# EAGLE library part AM3359 (library eagle-book)
Texas Instruments' Sitara ARM Cortex-A8 Microprocessor
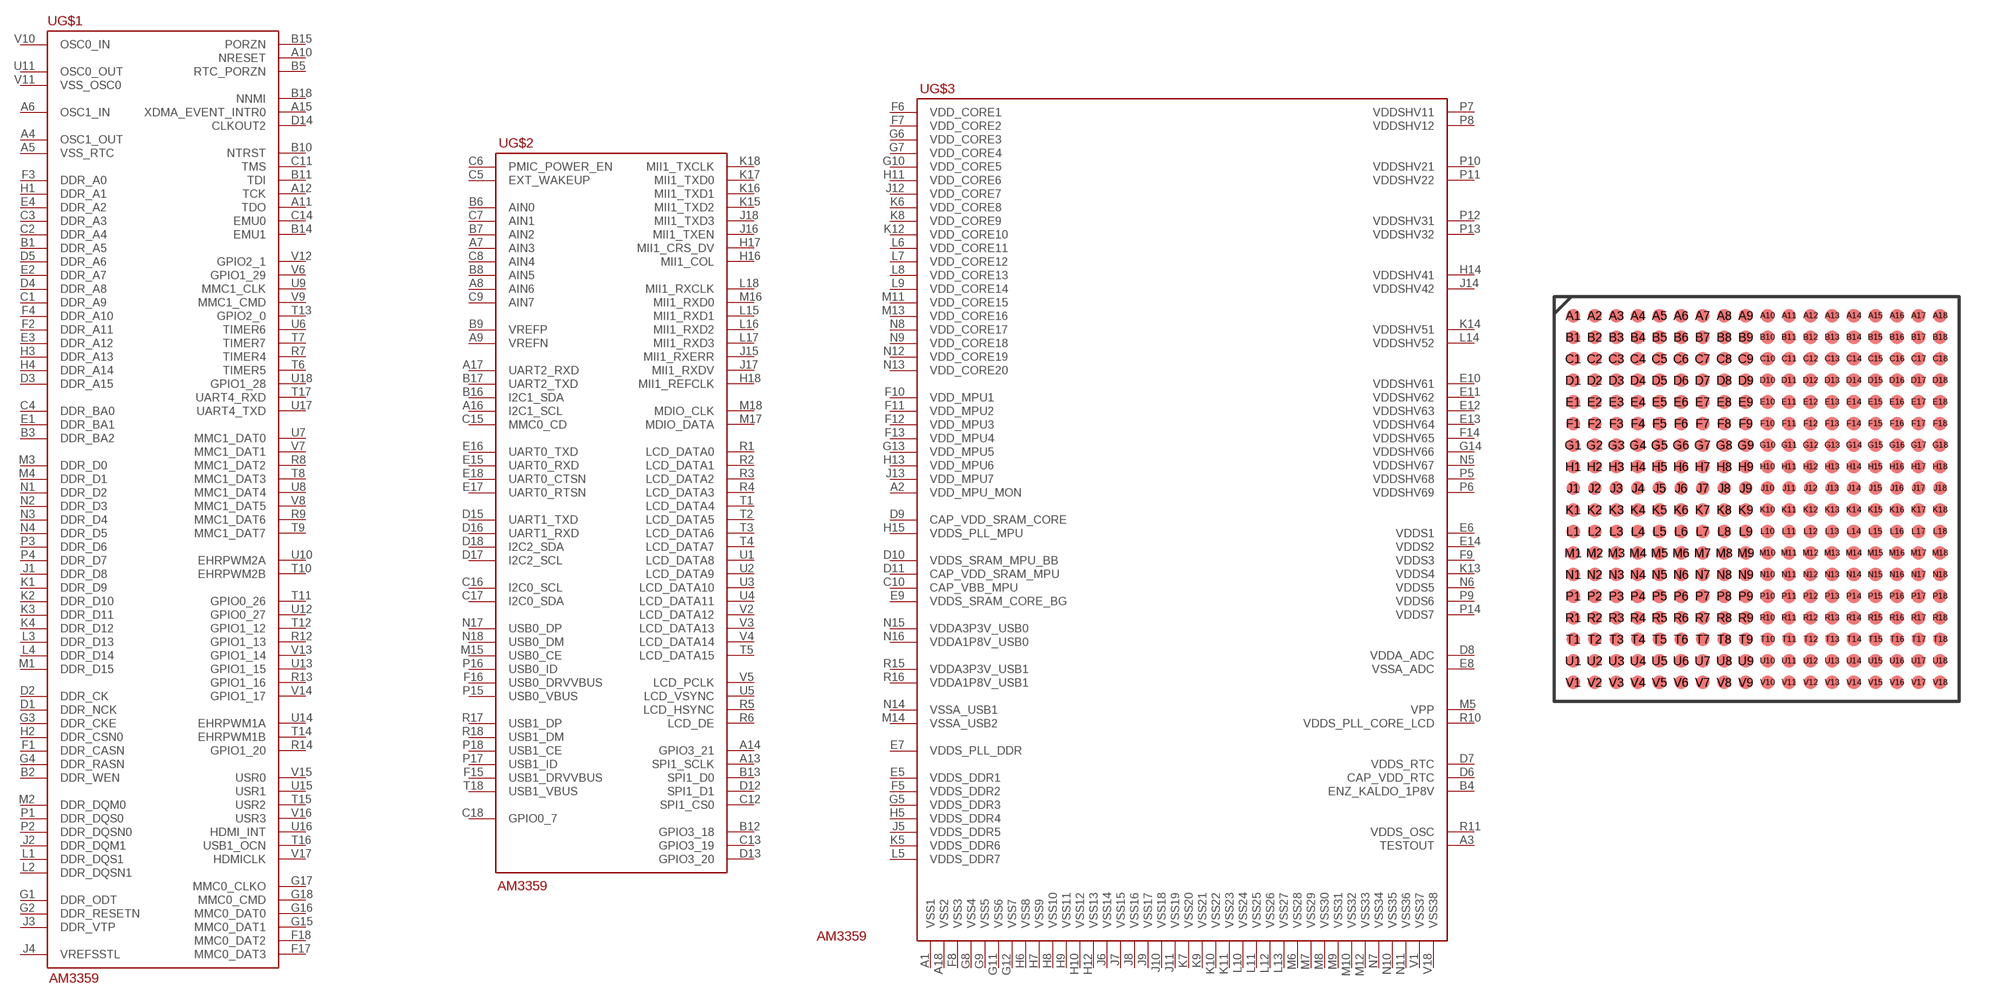
[diagram p7: symbol with the pads of S-PBGA-N324; footprint S-PBGA-N324]

Designator prefix U; gates G$1=AM3359_MEMORY G$2=AM3359_IO G$3=AM3359_SUPPLY

## AM3359AZCZ100  [S-PBGA-N324]
A1  G$3:VSS1  pwr
A2  G$3:VDD_MPU_MON  pwr
A3  G$3:TESTOUT  pwr
A4  G$1:OSC1_OUT
A5  G$1:VSS_RTC  pwr
A6  G$1:OSC1_IN
A7  G$2:AIN3
A8  G$2:AIN6
A9  G$2:VREFN  pwr
A10  G$1:NRESET
A11  G$1:TDO
A12  G$1:TCK
A13  G$2:SPI1_SCLK
A14  G$2:GPIO3_21
A15  G$1:XDMA_EVENT_INTR0
A16  G$2:I2C1_SCL
A17  G$2:UART2_RXD
A18  G$3:VSS2  pwr
B1  G$1:DDR_A5
B2  G$1:DDR_WEN
B3  G$1:DDR_BA2
B4  G$3:ENZ_KALDO_1P8V  pwr
B5  G$1:RTC_PORZN
B6  G$2:AIN0
B7  G$2:AIN2
B8  G$2:AIN5
B9  G$2:VREFP  pwr
B10  G$1:NTRST
B11  G$1:TDI
B12  G$2:GPIO3_18
B13  G$2:SPI1_D0
B14  G$1:EMU1
B15  G$1:PORZN
B16  G$2:I2C1_SDA
B17  G$2:UART2_TXD
B18  G$1:NNMI
C1  G$1:DDR_A9
C2  G$1:DDR_A4
C3  G$1:DDR_A3
C4  G$1:DDR_BA0
C5  G$2:EXT_WAKEUP
C6  G$2:PMIC_POWER_EN
C7  G$2:AIN1
C8  G$2:AIN4
C9  G$2:AIN7
C10  G$3:CAP_VBB_MPU  pwr
C11  G$1:TMS
C12  G$2:SPI1_CS0
C13  G$2:GPIO3_19
C14  G$1:EMU0
C15  G$2:MMC0_CD
C16  G$2:I2C0_SCL
C17  G$2:I2C0_SDA
C18  G$2:GPIO0_7
D1  G$1:DDR_NCK
D2  G$1:DDR_CK
D3  G$1:DDR_A15
D4  G$1:DDR_A8
D5  G$1:DDR_A6
D6  G$3:CAP_VDD_RTC  pwr
D7  G$3:VDDS_RTC  pwr
D8  G$3:VDDA_ADC  pwr
D9  G$3:CAP_VDD_SRAM_CORE  pwr
D10  G$3:VDDS_SRAM_MPU_BB  pwr
D11  G$3:CAP_VDD_SRAM_MPU  pwr
D12  G$2:SPI1_D1
D13  G$2:GPIO3_20
D14  G$1:CLKOUT2
D15  G$2:UART1_TXD
D16  G$2:UART1_RXD
D17  G$2:I2C2_SCL
D18  G$2:I2C2_SDA
E1  G$1:DDR_BA1
E2  G$1:DDR_A7
E3  G$1:DDR_A12
E4  G$1:DDR_A2
E5  G$3:VDDS_DDR1  pwr
E6  G$3:VDDS1  pwr
E7  G$3:VDDS_PLL_DDR  pwr
E8  G$3:VSSA_ADC  pwr
E9  G$3:VDDS_SRAM_CORE_BG  pwr
E10  G$3:VDDSHV61  pwr
E11  G$3:VDDSHV62  pwr
E12  G$3:VDDSHV63  pwr
E13  G$3:VDDSHV64  pwr
E14  G$3:VDDS2  pwr
E15  G$2:UART0_RXD
E16  G$2:UART0_TXD
E17  G$2:UART0_RTSN
E18  G$2:UART0_CTSN
F1  G$1:DDR_CASN
F2  G$1:DDR_A11
F3  G$1:DDR_A0
F4  G$1:DDR_A10
F5  G$3:VDDS_DDR2  pwr
F6  G$3:VDD_CORE1  pwr
F7  G$3:VDD_CORE2  pwr
F8  G$3:VSS3  pwr
F9  G$3:VDDS3  pwr
F10  G$3:VDD_MPU1  pwr
F11  G$3:VDD_MPU2  pwr
F12  G$3:VDD_MPU3  pwr
F13  G$3:VDD_MPU4  pwr
F14  G$3:VDDSHV65  pwr
F15  G$2:USB1_DRVVBUS
F16  G$2:USB0_DRVVBUS
F17  G$1:MMC0_DAT3
F18  G$1:MMC0_DAT2
G1  G$1:DDR_ODT
G2  G$1:DDR_RESETN
G3  G$1:DDR_CKE
G4  G$1:DDR_RASN
G5  G$3:VDDS_DDR3  pwr
G6  G$3:VDD_CORE3  pwr
G7  G$3:VDD_CORE4  pwr
G8  G$3:VSS4  pwr
G9  G$3:VSS5  pwr
G10  G$3:VDD_CORE5  pwr
G11  G$3:VSS6  pwr
G12  G$3:VSS7  pwr
G13  G$3:VDD_MPU5  pwr
G14  G$3:VDDSHV66  pwr
G15  G$1:MMC0_DAT1
G16  G$1:MMC0_DAT0
G17  G$1:MMC0_CLKO
G18  G$1:MMC0_CMD
H1  G$1:DDR_A1
H2  G$1:DDR_CSN0
H3  G$1:DDR_A13
H4  G$1:DDR_A14
H5  G$3:VDDS_DDR4  pwr
H6  G$3:VSS8  pwr
H7  G$3:VSS9  pwr
H8  G$3:VSS10  pwr
H9  G$3:VSS11  pwr
H10  G$3:VSS12  pwr
H11  G$3:VDD_CORE6  pwr
H12  G$3:VSS13  pwr
H13  G$3:VDD_MPU6  pwr
H14  G$3:VDDSHV41  pwr
H15  G$3:VDDS_PLL_MPU  pwr
H16  G$2:MII1_COL
H17  G$2:MII1_CRS_DV
H18  G$2:MII1_REFCLK
J1  G$1:DDR_D8
J2  G$1:DDR_DQM1
J3  G$1:DDR_VTP
J4  G$1:VREFSSTL  pwr
J5  G$3:VDDS_DDR5  pwr
J6  G$3:VSS14  pwr
J7  G$3:VSS15  pwr
J8  G$3:VSS16  pwr
J9  G$3:VSS17  pwr
J10  G$3:VSS18  pwr
J11  G$3:VSS19  pwr
J12  G$3:VDD_CORE7  pwr
J13  G$3:VDD_MPU7  pwr
J14  G$3:VDDSHV42  pwr
J15  G$2:MII1_RXERR
J16  G$2:MII1_TXEN
J17  G$2:MII1_RXDV
J18  G$2:MII1_TXD3
K1  G$1:DDR_D9
K2  G$1:DDR_D10
K3  G$1:DDR_D11
K4  G$1:DDR_D12
K5  G$3:VDDS_DDR6  pwr
K6  G$3:VDD_CORE8  pwr
K7  G$3:VSS20  pwr
K8  G$3:VDD_CORE9  pwr
K9  G$3:VSS21  pwr
K10  G$3:VSS22  pwr
K11  G$3:VSS23  pwr
K12  G$3:VDD_CORE10  pwr
K13  G$3:VDDS4  pwr
K14  G$3:VDDSHV51  pwr
K15  G$2:MII1_TXD2
K16  G$2:MII1_TXD1
K17  G$2:MII1_TXD0
K18  G$2:MII1_TXCLK
L1  G$1:DDR_DQS1
L2  G$1:DDR_DQSN1
L3  G$1:DDR_D13
L4  G$1:DDR_D14
L5  G$3:VDDS_DDR7  pwr
L6  G$3:VDD_CORE11  pwr
L7  G$3:VDD_CORE12  pwr
L8  G$3:VDD_CORE13  pwr
L9  G$3:VDD_CORE14  pwr
L10  G$3:VSS24  pwr
L11  G$3:VSS25  pwr
L12  G$3:VSS26  pwr
L13  G$3:VSS27  pwr
L14  G$3:VDDSHV52  pwr
L15  G$2:MII1_RXD1
L16  G$2:MII1_RXD2
L17  G$2:MII1_RXD3
L18  G$2:MII1_RXCLK
M1  G$1:DDR_D15
M2  G$1:DDR_DQM0
M3  G$1:DDR_D0
M4  G$1:DDR_D1
M5  G$3:VPP  pwr
M6  G$3:VSS28  pwr
M7  G$3:VSS29  pwr
M8  G$3:VSS30  pwr
M9  G$3:VSS31  pwr
M10  G$3:VSS32  pwr
M11  G$3:VDD_CORE15  pwr
M12  G$3:VSS33  pwr
M13  G$3:VDD_CORE16  pwr
M14  G$3:VSSA_USB2  pwr
M15  G$2:USB0_CE
M16  G$2:MII1_RXD0
M17  G$2:MDIO_DATA
M18  G$2:MDIO_CLK
N1  G$1:DDR_D2
N2  G$1:DDR_D3
N3  G$1:DDR_D4
N4  G$1:DDR_D5
N5  G$3:VDDSHV67  pwr
N6  G$3:VDDS5  pwr
N7  G$3:VSS34  pwr
N8  G$3:VDD_CORE17  pwr
N9  G$3:VDD_CORE18  pwr
N10  G$3:VSS35  pwr
N11  G$3:VSS36  pwr
N12  G$3:VDD_CORE19  pwr
N13  G$3:VDD_CORE20  pwr
N14  G$3:VSSA_USB1  pwr
N15  G$3:VDDA3P3V_USB0  pwr
N16  G$3:VDDA1P8V_USB0  pwr
N17  G$2:USB0_DP
N18  G$2:USB0_DM
P1  G$1:DDR_DQS0
P2  G$1:DDR_DQSN0
P3  G$1:DDR_D6
P4  G$1:DDR_D7
P5  G$3:VDDSHV68  pwr
P6  G$3:VDDSHV69  pwr
P7  G$3:VDDSHV11  pwr
P8  G$3:VDDSHV12  pwr
P9  G$3:VDDS6  pwr
P10  G$3:VDDSHV21  pwr
P11  G$3:VDDSHV22  pwr
P12  G$3:VDDSHV31  pwr
P13  G$3:VDDSHV32  pwr
P14  G$3:VDDS7  pwr
P15  G$2:USB0_VBUS
P16  G$2:USB0_ID
P17  G$2:USB1_ID
P18  G$2:USB1_CE
R1  G$2:LCD_DATA0
R2  G$2:LCD_DATA1
R3  G$2:LCD_DATA2
R4  G$2:LCD_DATA3
R5  G$2:LCD_HSYNC
R6  G$2:LCD_DE
R7  G$1:TIMER4
R8  G$1:MMC1_DAT2
R9  G$1:MMC1_DAT6
R10  G$3:VDDS_PLL_CORE_LCD  pwr
R11  G$3:VDDS_OSC  pwr
R12  G$1:GPIO1_13
R13  G$1:GPIO1_16
R14  G$1:GPIO1_20
R15  G$3:VDDA3P3V_USB1  pwr
R16  G$3:VDDA1P8V_USB1  pwr
R17  G$2:USB1_DP
R18  G$2:USB1_DM
T1  G$2:LCD_DATA4
T2  G$2:LCD_DATA5
T3  G$2:LCD_DATA6
T4  G$2:LCD_DATA7
T5  G$2:LCD_DATA15
T6  G$1:TIMER5
T7  G$1:TIMER7
T8  G$1:MMC1_DAT3
T9  G$1:MMC1_DAT7
T10  G$1:EHRPWM2B
T11  G$1:GPIO0_26
T12  G$1:GPIO1_12
T13  G$1:GPIO2_0
T14  G$1:EHRPWM1B
T15  G$1:USR2
T16  G$1:USB1_OCN
T17  G$1:UART4_RXD
T18  G$2:USB1_VBUS
U1  G$2:LCD_DATA8
U2  G$2:LCD_DATA9
U3  G$2:LCD_DATA10
U4  G$2:LCD_DATA11
U5  G$2:LCD_VSYNC
U6  G$1:TIMER6
U7  G$1:MMC1_DAT0
U8  G$1:MMC1_DAT4
U9  G$1:MMC1_CLK
U10  G$1:EHRPWM2A
U11  G$1:OSC0_OUT
U12  G$1:GPIO0_27
U13  G$1:GPIO1_15
U14  G$1:EHRPWM1A
U15  G$1:USR1
U16  G$1:HDMI_INT
U17  G$1:UART4_TXD
U18  G$1:GPIO1_28
V1  G$3:VSS37  pwr
V2  G$2:LCD_DATA12
V3  G$2:LCD_DATA13
V4  G$2:LCD_DATA14
V5  G$2:LCD_PCLK
V6  G$1:GPIO1_29
V7  G$1:MMC1_DAT1
V8  G$1:MMC1_DAT5
V9  G$1:MMC1_CMD
V10  G$1:OSC0_IN
V11  G$1:VSS_OSC0  pwr
V12  G$1:GPIO2_1
V13  G$1:GPIO1_14
V14  G$1:GPIO1_17
V15  G$1:USR0
V16  G$1:USR3
V17  G$1:HDMICLK
V18  G$3:VSS38  pwr

## Footprint S-PBGA-N324 (pad centres in mm)
324-ball plastic ball-grid array
smd 0.5 x 0.5: A1 -6.8,6.8; A2 -6,6.8; A3 -5.2,6.8; A4 -4.4,6.8; A5 -3.6,6.8; A6 -2.8,6.8; A7 -2,6.8; A8 -1.2,6.8; A9 -0.4,6.8; A10 0.4,6.8; A11 1.2,6.8; A12 2,6.8; A13 2.8,6.8; A14 3.6,6.8; A15 4.4,6.8; A16 5.2,6.8; A17 6,6.8; A18 6.8,6.8; B1 -6.8,6; B2 -6,6; B3 -5.2,6; B4 -4.4,6; B5 -3.6,6; B6 -2.8,6; B7 -2,6; B8 -1.2,6; B9 -0.4,6; B10 0.4,6; B11 1.2,6; B12 2,6; B13 2.8,6; B14 3.6,6; B15 4.4,6; B16 5.2,6; B17 6,6; B18 6.8,6; C1 -6.8,5.2; C2 -6,5.2; C3 -5.2,5.2; C4 -4.4,5.2; C5 -3.6,5.2; C6 -2.8,5.2; C7 -2,5.2; C8 -1.2,5.2; C9 -0.4,5.2; C10 0.4,5.2; C11 1.2,5.2; C12 2,5.2; C13 2.8,5.2; C14 3.6,5.2; C15 4.4,5.2; C16 5.2,5.2; C17 6,5.2; C18 6.8,5.2; D1 -6.8,4.4; D2 -6,4.4; D3 -5.2,4.4; D4 -4.4,4.4; D5 -3.6,4.4; D6 -2.8,4.4; D7 -2,4.4; D8 -1.2,4.4; D9 -0.4,4.4; D10 0.4,4.4; D11 1.2,4.4; D12 2,4.4; D13 2.8,4.4; D14 3.6,4.4; D15 4.4,4.4; D16 5.2,4.4; D17 6,4.4; D18 6.8,4.4; E1 -6.8,3.6; E2 -6,3.6; E3 -5.2,3.6; E4 -4.4,3.6; E5 -3.6,3.6; E6 -2.8,3.6; E7 -2,3.6; E8 -1.2,3.6; E9 -0.4,3.6; E10 0.4,3.6; E11 1.2,3.6; E12 2,3.6; E13 2.8,3.6; E14 3.6,3.6; E15 4.4,3.6; E16 5.2,3.6; E17 6,3.6; E18 6.8,3.6; F1 -6.8,2.8; F2 -6,2.8; F3 -5.2,2.8; F4 -4.4,2.8; F5 -3.6,2.8; F6 -2.8,2.8; F7 -2,2.8; F8 -1.2,2.8; F9 -0.4,2.8; F10 0.4,2.8; F11 1.2,2.8; F12 2,2.8; F13 2.8,2.8; F14 3.6,2.8; F15 4.4,2.8; F16 5.2,2.8; F17 6,2.8; F18 6.8,2.8; G1 -6.8,2; G2 -6,2; G3 -5.2,2; G4 -4.4,2; G5 -3.6,2; G6 -2.8,2; G7 -2,2; G8 -1.2,2; G9 -0.4,2; G10 0.4,2; G11 1.2,2; G12 2,2; G13 2.8,2; G14 3.6,2; G15 4.4,2; G16 5.2,2; G17 6,2; G18 6.8,2; H1 -6.8,1.2; H2 -6,1.2; H3 -5.2,1.2; H4 -4.4,1.2; H5 -3.6,1.2; H6 -2.8,1.2; H7 -2,1.2; H8 -1.2,1.2; H9 -0.4,1.2; H10 0.4,1.2; H11 1.2,1.2; H12 2,1.2; H13 2.8,1.2; H14 3.6,1.2; H15 4.4,1.2; H16 5.2,1.2; H17 6,1.2; H18 6.8,1.2; J1 -6.8,0.4; J2 -6,0.4; J3 -5.2,0.4; J4 -4.4,0.4; J5 -3.6,0.4; J6 -2.8,0.4; J7 -2,0.4; J8 -1.2,0.4; J9 -0.4,0.4; J10 0.4,0.4; J11 1.2,0.4; J12 2,0.4; J13 2.8,0.4; J14 3.6,0.4; J15 4.4,0.4; J16 5.2,0.4; J17 6,0.4; J18 6.8,0.4; K1 -6.8,-0.4; K2 -6,-0.4; K3 -5.2,-0.4; K4 -4.4,-0.4; K5 -3.6,-0.4; K6 -2.8,-0.4; K7 -2,-0.4; K8 -1.2,-0.4; K9 -0.4,-0.4; K10 0.4,-0.4; K11 1.2,-0.4; K12 2,-0.4; K13 2.8,-0.4; K14 3.6,-0.4; K15 4.4,-0.4; K16 5.2,-0.4; K17 6,-0.4; K18 6.8,-0.4; L1 -6.8,-1.2; L2 -6,-1.2; L3 -5.2,-1.2; L4 -4.4,-1.2; L5 -3.6,-1.2; L6 -2.8,-1.2; L7 -2,-1.2; L8 -1.2,-1.2; L9 -0.4,-1.2; L10 0.4,-1.2; L11 1.2,-1.2; L12 2,-1.2; L13 2.8,-1.2; L14 3.6,-1.2; L15 4.4,-1.2; L16 5.2,-1.2; L17 6,-1.2; L18 6.8,-1.2; M1 -6.8,-2; M2 -6,-2; M3 -5.2,-2; M4 -4.4,-2; M5 -3.6,-2; M6 -2.8,-2; M7 -2,-2; M8 -1.2,-2; M9 -0.4,-2; M10 0.4,-2; M11 1.2,-2; M12 2,-2; M13 2.8,-2; M14 3.6,-2; M15 4.4,-2; M16 5.2,-2; M17 6,-2; M18 6.8,-2; N1 -6.8,-2.8; N2 -6,-2.8; N3 -5.2,-2.8; N4 -4.4,-2.8; N5 -3.6,-2.8; N6 -2.8,-2.8; N7 -2,-2.8; N8 -1.2,-2.8; N9 -0.4,-2.8; N10 0.4,-2.8; N11 1.2,-2.8; N12 2,-2.8; N13 2.8,-2.8; N14 3.6,-2.8; N15 4.4,-2.8; N16 5.2,-2.8; N17 6,-2.8; N18 6.8,-2.8; P1 -6.8,-3.6; P2 -6,-3.6; P3 -5.2,-3.6; P4 -4.4,-3.6; P5 -3.6,-3.6; P6 -2.8,-3.6; P7 -2,-3.6; P8 -1.2,-3.6; P9 -0.4,-3.6; P10 0.4,-3.6; P11 1.2,-3.6; P12 2,-3.6; P13 2.8,-3.6; P14 3.6,-3.6; P15 4.4,-3.6; P16 5.2,-3.6; P17 6,-3.6; P18 6.8,-3.6; R1 -6.8,-4.4; R2 -6,-4.4; R3 -5.2,-4.4; R4 -4.4,-4.4; R5 -3.6,-4.4; R6 -2.8,-4.4; R7 -2,-4.4; R8 -1.2,-4.4; R9 -0.4,-4.4; R10 0.4,-4.4; R11 1.2,-4.4; R12 2,-4.4; R13 2.8,-4.4; R14 3.6,-4.4; R15 4.4,-4.4; R16 5.2,-4.4; R17 6,-4.4; R18 6.8,-4.4; T1 -6.8,-5.2; T2 -6,-5.2; T3 -5.2,-5.2; T4 -4.4,-5.2; T5 -3.6,-5.2; T6 -2.8,-5.2; T7 -2,-5.2; T8 -1.2,-5.2; T9 -0.4,-5.2; T10 0.4,-5.2; T11 1.2,-5.2; T12 2,-5.2; T13 2.8,-5.2; T14 3.6,-5.2; T15 4.4,-5.2; T16 5.2,-5.2; T17 6,-5.2; T18 6.8,-5.2; U1 -6.8,-6; U2 -6,-6; U3 -5.2,-6; U4 -4.4,-6; U5 -3.6,-6; U6 -2.8,-6; U7 -2,-6; U8 -1.2,-6; U9 -0.4,-6; U10 0.4,-6; U11 1.2,-6; U12 2,-6; U13 2.8,-6; U14 3.6,-6; U15 4.4,-6; U16 5.2,-6; U17 6,-6; U18 6.8,-6; V1 -6.8,-6.8; V2 -6,-6.8; V3 -5.2,-6.8; V4 -4.4,-6.8; V5 -3.6,-6.8; V6 -2.8,-6.8; V7 -2,-6.8; V8 -1.2,-6.8; V9 -0.4,-6.8; V10 0.4,-6.8; V11 1.2,-6.8; V12 2,-6.8; V13 2.8,-6.8; V14 3.6,-6.8; V15 4.4,-6.8; V16 5.2,-6.8; V17 6,-6.8; V18 6.8,-6.8